# Altium integrated library 103308-1.IntLib: 1 symbol
Pins are listed as number, name and electrical type; pins without a type are passive.

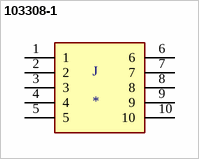
[diagram p0: symbol 103308-1]

## 103308-1
designator J
Header;  Pin;  Vertical;  Copper Alloy;  Thermoplastic;  10;  0.100 x 0.100 in.;  1 A; MP: 103308-1; MF: TE Connectivity; Package: None; Value: *; Price: None; Availability: Unavailable; SnapEDA_Link: https://www.snapeda.com/parts/103308-1/TE%20Connectivity%20AMP%20Connectors/view-part/519501/?ref=snap
footprint TE_103308-1
pins: 1, 2, 3, 4, 5, 6, 7, 8, 9, 10